# EAGLE library part G2RL-2 (library omcRelay)
Omron G2RL-2 - 8A PCB Power Relay 2-pole 8A@250VAC, 8A@30VDC Low Profile Power Relay with 15.7 mm height, ideal for incorporation in miniature equipments A wide variety of single pole, double pole, high-capacity (16 A) type and high-sensitivity type (250 mW) Relays are available. Low profile; 15.7 mm max. in height. Conforms to VDE (EN61810-1), UL508 and CSA22.2. IEC/EN 60335-1 conformed. (-HA Model) Satisfies ambient operating temperature requirement of 85°C and 105°C (-CV Model). Clearance and creepage distance: 8 mm / 8 mm min. Coil insulation system: Class F (UL1446). Datasheet Omron <https://omronfs.omron.com/en_US/ecb/products/pdf/en-g2rl.pdf> Reichelt <https://cdn-reichelt.de/documents/datenblatt/C300/G2RL_ENG_TDS.pdf>
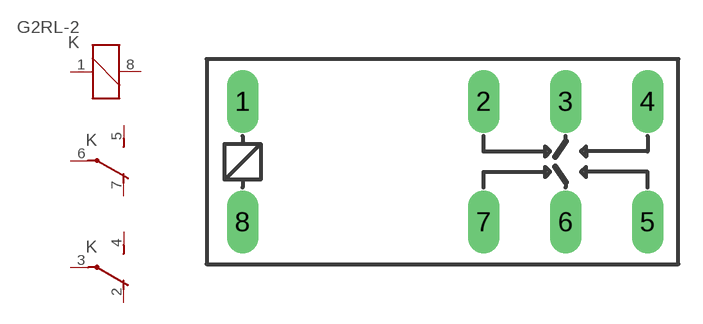
[diagram p0: symbol with the pads of THT_7M5M_20MM_5MM; footprint THT_7M5M_20MM_5MM]

Designator prefix K; gates G$1=K G$2=U G$3=U

## G2RL-2-12VDC (DIST#REICHELT#: G2RL-2 DC12; VALUE: G2RL-2 DC12V; VENDOR#: Omron,G2RL-2 DC12V), G2RL-2-24VDC (DIST#REICHELT#: G2RL-2 DC24; VALUE: G2RL-2 DC24V; VENDOR#: Omron,G2RL-2 DC24V), G2RL-2-5VDC (DIST#REICHELT#: G2RL-2 DC5; VALUE: G2RL-2 DC5V; VENDOR#: Omron,G2RL-2 DC5V)  [THT_7M5M_20MM_5MM]
1  G$1:1  pas
2  G$2:O  pas
3  G$2:P  pas
4  G$2:S  pas
5  G$3:S  pas
6  G$3:P  pas
7  G$3:O  pas
8  G$1:2  pas

## Footprint THT_7M5M_20MM_5MM (pad centres in mm)
THT Relay Mechanical: row switch-over contact-to-contact distance: 5mm row midle switch-over contact-to-coil distance: 20mm row to row distance: 7.5mm Electrical: Terminal: 8 Change-over contacts: 2 Used by: Omron: G2RL-2 (-HA), G2R-24 Fujitsu: FTR-F1
drill 1.3 pad 1.93 long: 1 2.223,10.081; 2 17.145,10.081; 3 22.225,10.081; 4 27.305,10.081; 5 27.305,2.619; 6 22.225,2.619; 7 17.145,2.619; 8 2.223,2.619